# Altium footprint library basic.PcbLib: 38 footprints (part 3 of 3)
Each footprint in its own frame and in the unit in brackets; x right, y up, seen from the top. Pads: shape width x height; smd on the part's side, far side on the other; paste and mask are expansions set on the pad; w line width, h text height; cw(c..) or ccw(c..) is an arc to the next point about the centre after c.
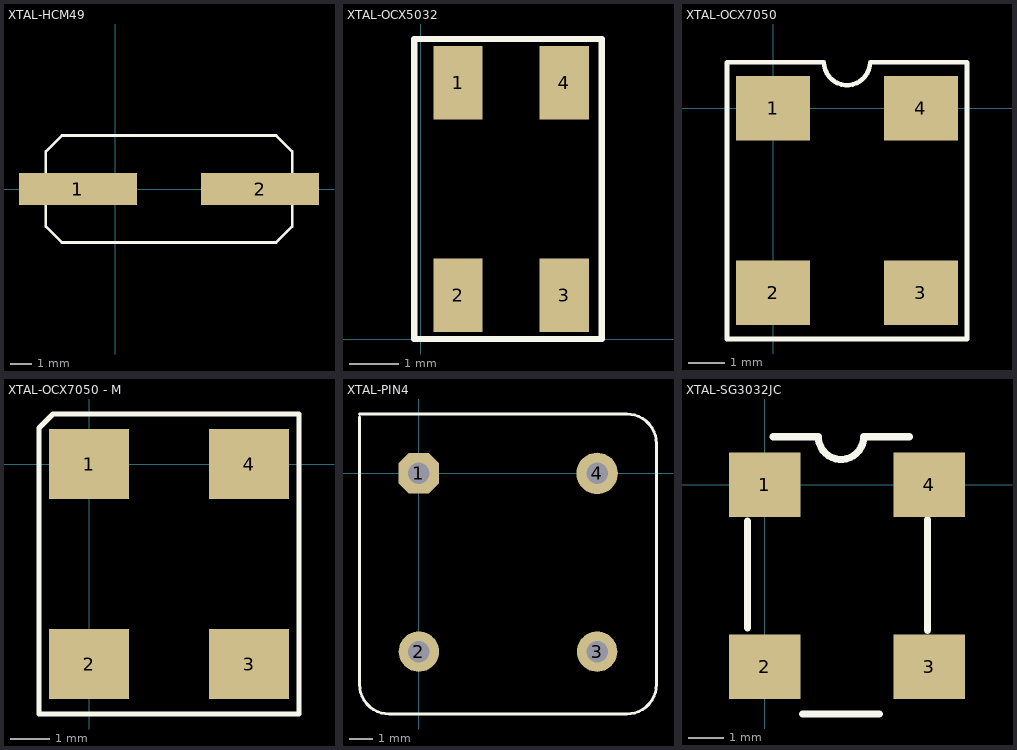
[diagram p2: the footprints below, top view; thin cyan lines are the x and y axes]

## XTAL-HCM49 [mil]
pads (2):
  rect 220x60 smd: 1(-70,0) 2(270,0)
Top Overlay:
  lines w5: -130,-70 -130,70 -100,100 300,100 330,70 330,-70 300,-100 -100,-100 -130,-70
3D body: height 0, standoff 0, extent -130.02,-70.02 -130.01,-70.01
3D body: height 0, standoff 0, extent -184,-102.5 384,102.5

## XTAL-OCX5032 [mil] "四角贴片晶振"
pads (4):
  rect 39.37x59.06 smd: 1(30,205) 2(30,35) 3(115,35) 4(115,205)
Top Overlay:
  lines w5: -5,0 -5,240 145,240 145,0 -5,0

## XTAL-OCX7050 [mil]
pads (4):
  rect 80x70 smd: 1(0,0) 2(0,-200) 3(160,-200) 4(160,0)
Top Overlay:
  lines w5: -50,-250 -50,50 55,50 ccw(c80,50) 105,50 210,50 210,-250 -50,-250

## XTAL-OCX7050 - M [mil] "斜角标记"
pads (4):
  rect 80x70 smd: 1(0,0) 2(0,-200) 3(160,-200) 4(160,0)
Top Overlay:
  lines w5: 46,50 210,50 210,-250 -50,-250 -50,36 -36,50 55,50

## XTAL-PIN4 [mil]
pads (4):
  oct 68x68 hole 36: 1(0,0)
  round 68 hole 36: 2(0,-300) 3(300,-300)
  round 70 hole 36: 4(300,0)
Top Overlay:
  lines w5: -100,95 -100,-355 ccw(c-50,-355) -50,-405 350,-405 ccw(c350,-355) 400,-355 400,50 ccw(c350,50) 350,100 -100,100

## XTAL-SG3032JC [mm]
pads (4):
  rect 2x1.8 smd: 1(0,0) 2(0,-5.08) 3(4.6,-5.08) 4(4.6,0)
Top Overlay:
  lines w0.2: 0.229,1.346 1.499,1.346 ccw(c2.134,1.346) 2.769,1.346 4.039,1.346
  lines w0.203: -0.483,-3.988 -0.483,-1.016 ; 1.067,-6.401 3.2,-6.401 ; 4.547,-4.064 4.547,-0.965